# Altium footprint library big-auv-power.PcbLib: 18 footprints (part 2 of 2)
Each footprint in its own frame and in the unit in brackets; x right, y up, seen from the top. Pads: shape width x height; smd on the part's side, far side on the other; paste and mask are expansions set on the pad; w line width, h text height; cw(c..) or ccw(c..) is an arc to the next point about the centre after c.
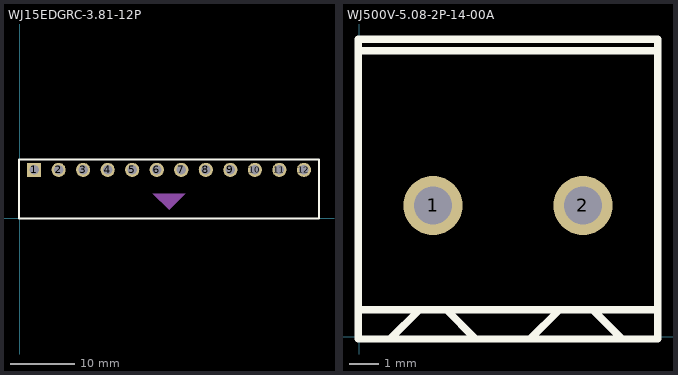
[diagram p1: the footprints below, top view; thin cyan lines are the x and y axes]

## WJ15EDGRC-3.81-12P [mm]
pads (12):
  rect 2.2x2.2 hole 1.5: 1(2.264,7.493)
  round 2.2 hole 1.5: 2(6.074,7.493) 3(9.884,7.493) 4(13.694,7.493) 5(17.504,7.493) 6(21.314,7.493) 7(25.124,7.493) 8(28.934,7.493) 9(32.744,7.493) 10(36.554,7.493) 11(40.364,7.493) 12(44.174,7.493)
Top Overlay:
  lines w0.254: -0.081,-0.057 46.519,-0.057 46.519,9.093 -0.081,9.093 -0.081,-0.057
Mechanical 15:
  region: 20.679,3.81 25.759,3.81 23.219,1.27

## WJ500V-5.08-2P-14-00A [mm]
pads (2):
  round 2 hole 1.3: 1(2.505,4.445) 2(7.585,4.445)
Top Overlay:
  lines w0.254: -0.035,-0.075 -0.035,10.085 ; -0.02,9.688 10.125,9.688 ; -0.009,-0.077 10.125,-0.077 10.125,10.083 -0.009,10.083 ; 0.009,0.914 10.125,0.914 ; 1.075,-0.055 2.035,0.905 ; 2.965,0.905 3.925,-0.055 ; 5.795,-0.073 6.755,0.887 ; 7.945,0.887 8.905,-0.073